# EAGLE library part MC10EP32DTG (library On Semiconductor)
ECL by 2 Divider
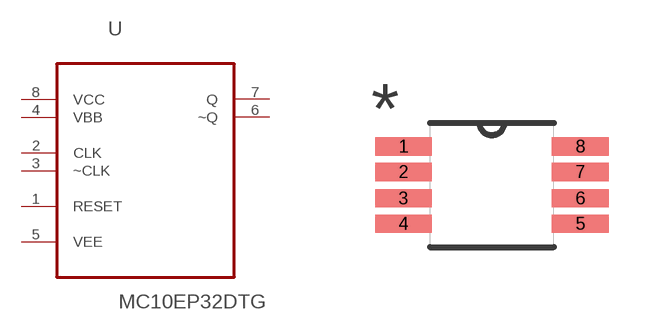
[diagram p177: symbol with the pads of SOP65P490X110-8N; footprint SOP65P490X110-8N]

Designator prefix U

## MC10EP32DTG (MPN: MC10EP32DTG; OC_FARNELL: 1258226; OC_NEWARK: 26K3732; PACKAGE: TSSOP-8; SUPPLIER: On Semiconductor)  [SOP65P490X110-8N]
1  RESET  in
2  CLK  in
3  ~CLK  in
4  VBB  pwr
5  VEE  pwr
6  ~Q  out
7  Q  out
8  VCC  pwr

## Footprint SOP65P490X110-8N (pad centres in mm)
smd 1.422 x 0.457: 1 -2.21,0.965; 2 -2.21,0.33; 3 -2.21,-0.33; 4 -2.21,-0.965; 5 2.21,-0.965; 6 2.21,-0.33; 7 2.21,0.33; 8 2.21,0.965